# Altium schematic symbol library Analog.SchLib: 32 symbols
Pins are listed as number, name and electrical type; pins without a type are passive.

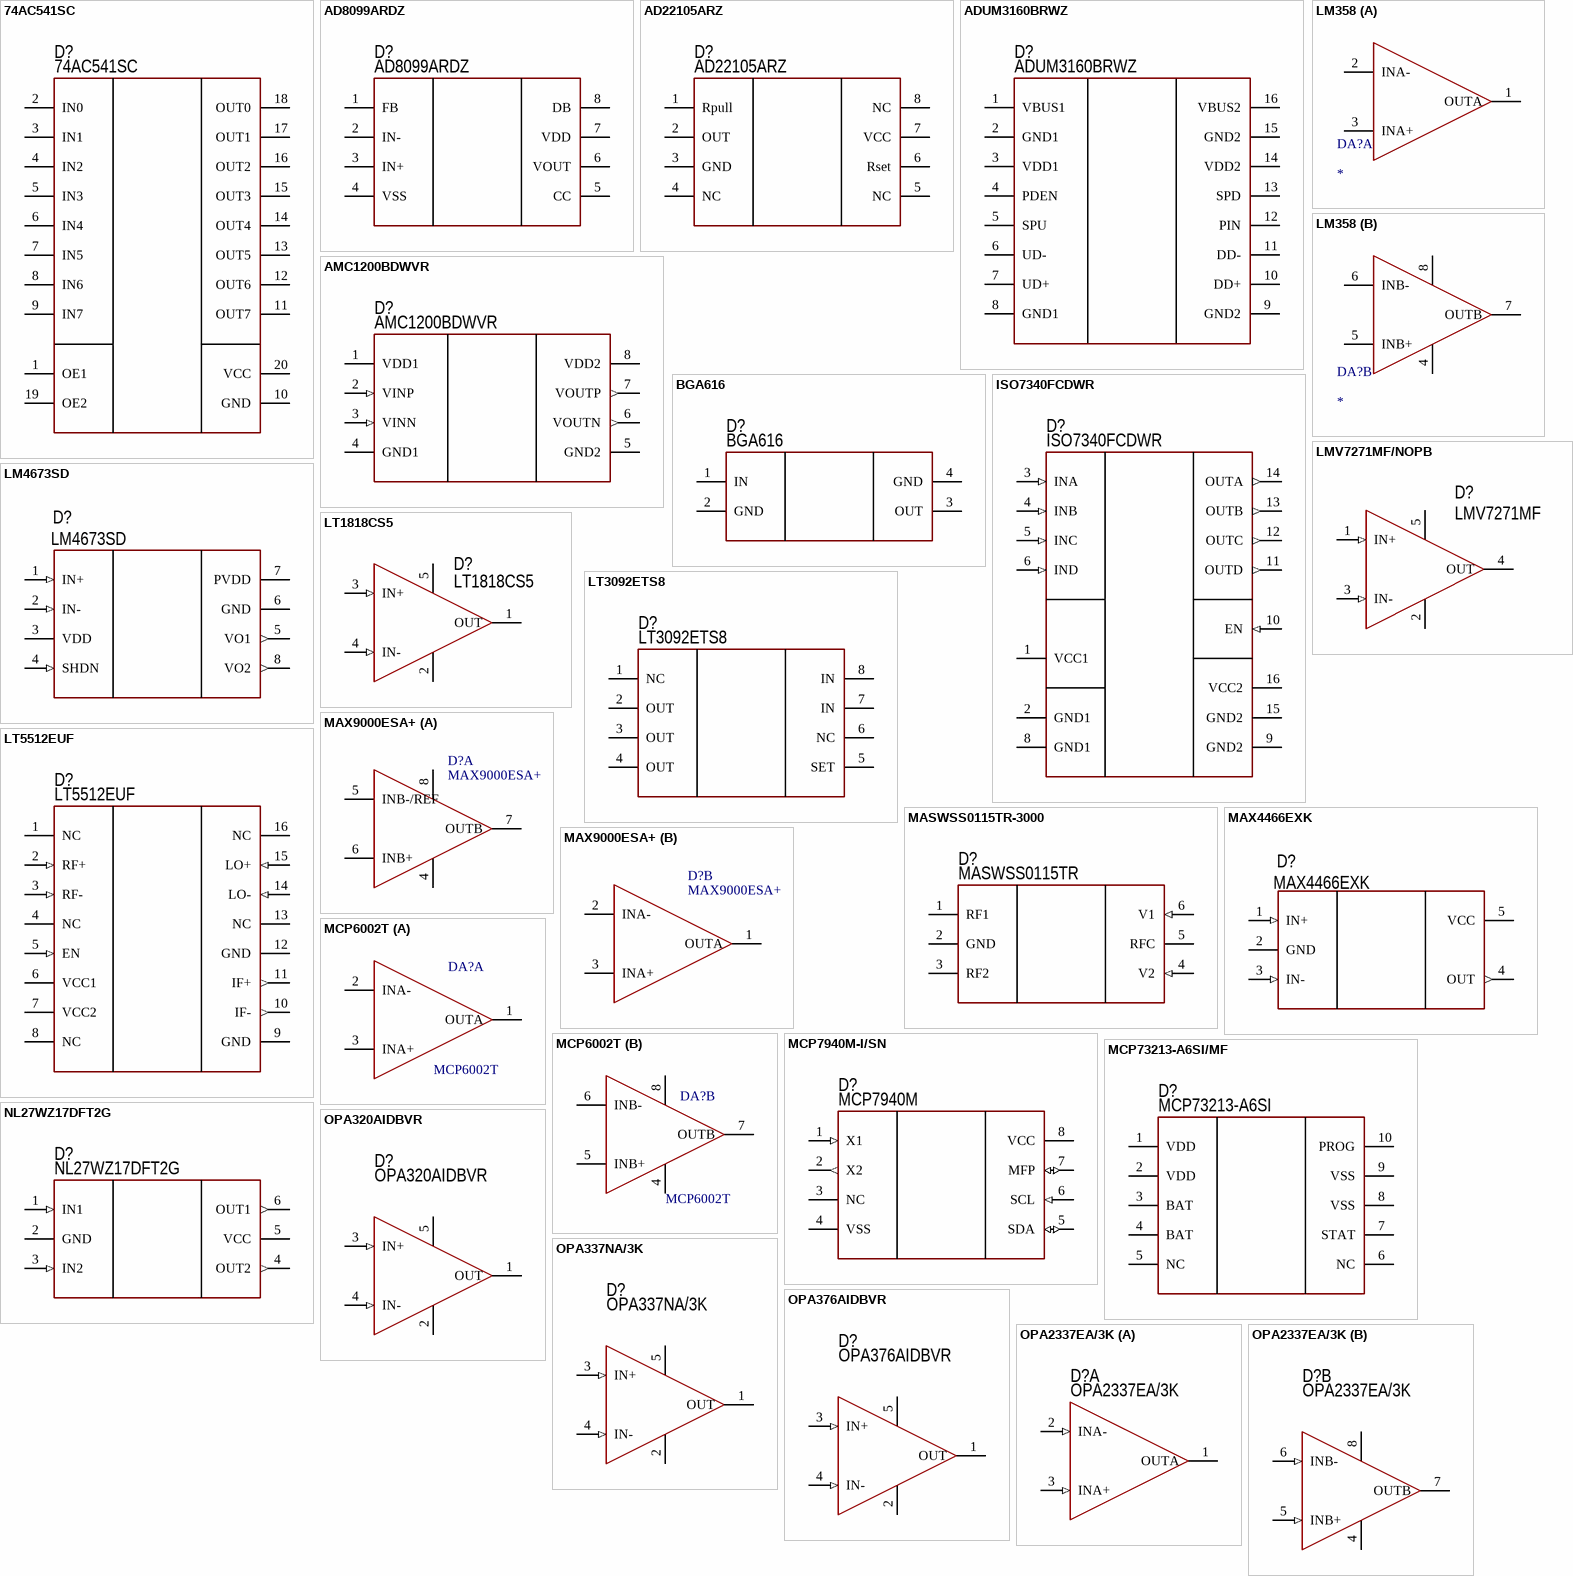
[diagram p0: symbols 74AC541SC to OPA2337EA/3K]

## 74AC541SC
designator D?
Buffer; Manufacturer: Fairchild Semiconductor; Model: 74AC541SC; HelpURL: https://www.digikey.com/product-detail/en/fairchild-on-semiconductor/74AC541SCX/74AC541SCXCT-ND/1626137; ComponentKind: 20-SOIC
footprint 20-SOIC (W)
pins: 1 OE1, 2 IN0, 3 IN1, 4 IN2, 5 IN3, 6 IN4, 7 IN5, 8 IN6, 9 IN7, 10 GND, 11 OUT7, 12 OUT6, 13 OUT5, 14 OUT4, 15 OUT3, 16 OUT2, 17 OUT1, 18 OUT0, 19 OE2, 20 VCC

## AD8099ARDZ
designator D?
Amplifer; Manufacturer: Analog Devices; Model: AD8099ARDZ; ComponentKind: 8-SOIC; HelpURL: https://www.digikey.com/product-detail/en/analog-devices-inc/AD8099ARDZ/AD8099ARDZ-ND/644115
footprint 8-SOIC
pins: 1 FB, 2 IN-, 3 IN+, 4 VSS, 5 CC, 6 VOUT, 7 VDD, 8 DB

## AD22105ARZ
designator D?
Temp sensor; Manufacturer: Analog Devices; Model: AD22105ARZ; ComponentKind: 8-SOIC; HelpURL: https://www.digikey.com/product-detail/en/analog-devices-inc/AD22105ARZ/AD22105ARZ-ND/617049
footprint 8-SOIC
pins: 1 Rpull, 2 OUT, 3 GND, 4 NC, 5 NC, 6 Rset, 7 VCC, 8 NC

## ADUM3160BRWZ
designator D?
Isolator USB; Manufacturer: Analog Devices Inc.; Model: ADUM3160BRWZ; HelpURL: https://www.digikey.com/product-detail/en/analog-devices-inc/ADUM3160BRWZ/ADUM3160BRWZ-ND/2361054; ComponentKind: 16-SOIC
footprint 16-SOIC (W)
pins: 1 VBUS1, 2 GND1, 3 VDD1, 4 PDEN, 5 SPU, 6 UD-, 7 UD+, 8 GND1, 9 GND2, 10 DD+, 11 DD-, 12 PIN, 13 SPD, 14 VDD2, 15 GND2, 16 VBUS2

## AMC1200BDWVR
designator D?
Isolator amp; Manufacturer: Texas Instruments; Model: AMC1200BDWVR; ComponentKind: 8-SOIC; HelpURL: https://ru.mouser.com/ProductDetail/Texas-Instruments/AMC1200BDWVR?qs=sGAEpiMZZMtyhvbnOfCRF3agHSSyipED66HthgVWgU8%3d
footprint 8-SOIC
pins: 1 VDD1 (power), 2 VINP (in), 3 VINN (in), 4 GND1 (power), 5 GND2 (power), 6 VOUTN (out), 7 VOUTP (out), 8 VDD2 (power)

## BGA616
designator D?
Amplifier RF; Manufacturer: Infineon Technologies; Model: BGA616H6327XTSA1; ComponentKind: SOT-343; HelpURL: https://www.digikey.com/product-detail/en/infineon-technologies/BGA616H6327XTSA1/BGA616H6327XTSA1CT-ND/2410159
footprint SOT343
pins: 1 IN, 2 GND, 3 OUT, 4 GND

## ISO7340FCDWR
designator D?
Isolator; Manufacturer: Texas Instruments; Model: ISO7340FCDWR; ComponentKind: 16-SOIC; HelpURL: https://www.digikey.com/product-detail/en/texas-instruments/ISO7340FCDWR/296-47262-1-ND/7688272
footprint 16-SOIC (W)
pins: 1 VCC1 (power), 2 GND1 (power), 3 INA (in), 4 INB (in), 5 INC (in), 6 IND (in), 8 GND1 (power), 9 GND2 (power), 10 EN (in), 11 OUTD (out), 12 OUTC (out), 13 OUTB (out), 14 OUTA (out), 15 GND2 (power), 16 VCC2 (power)

## LM358
designator DA?
footprint 8-SOIC
part A pins: 1 OUTA (power), 2 INA-, 3 INA+
part B pins: 4 V- (power), 5 INB+, 6 INB-, 7 OUTB (power), 8 V+ (power)

## LM4673SD
designator D?
Audio class D; Manufacturer: Texas Instruments; Model: LM4673SD/NOPB; ComponentKind: 8-WSON; HelpURL: https://www.digikey.com/product-detail/en/texas-instruments/LM4673SD-NOPB/LM4673SD-NOPBCT-ND/1207555
footprint 8-WSON (3x3 mm)
pins: 1 IN+ (in), 2 IN- (in), 3 VDD, 4 SHDN (in), 5 VO1 (out), 6 GND, 7 PVDD, 8 VO2 (out)

## LMV7271MF/NOPB
designator D?, comment LMV7271MF
Comparator; Manufacturer: Texas Instruments; Model: LMV7271MF/NOPB; ComponentKind: SOT-23-5; HelpURL: https://ru.mouser.com/ProductDetail/Texas-Instruments/LMV7271MF-NOPB?qs=sGAEpiMZZMuayl%2fEk2kXcbEcxwmoPguczmuSedfFzeo%3d
footprint SOT23-5 (SOT23, 5-Leads, Body 2,90x2,80mm, Pitch 0,95mm, IPC Medium Density)
pins: 1 IN+ (in), 2 V- (power), 3 IN- (in), 4 OUT (power), 5 V+ (power)

## LT1818CS5
designator D?
Amplifer; Manufacturer: Linear Technology; Model: LT1818CS5#TRMPBF; ComponentKind: SOT23-5; HelpURL: https://www.digikey.com/product-detail/en/linear-technology/LT1818CS5-TRMPBF/LT1818CS5-TRMPBFCT-ND/1754244
footprint SOT23-5 (SOT23, 5-Leads, Body 2,90x2,80mm, Pitch 0,95mm, IPC Medium Density)
pins: 1 OUT, 2 V- (power), 3 IN+ (in), 4 IN- (in), 5 V+ (power)

## LT3092ETS8
designator D?
Current Source; Manufacturer: Linear Technology; Model: LT3092ETS8#TRMPBF; HelpURL: https://www.digikey.com/product-detail/en/linear-technology/LT3092ETS8-TRMPBF/LT3092ETS8-TRMPBFCT-ND/2136076; ComponentKind: SOT23-8
footprint SOT23-8 (8-Lead Small Outline Transistor Package [SOT-23])
pins: 1 NC, 2 OUT, 3 OUT, 4 OUT, 5 SET, 6 NC, 7 IN, 8 IN

## LT5512EUF
designator D?
RF mixer; Manufacturer: Linear Technology; Model: LT5512EUF#PBF; HelpURL: https://www.digikey.com/product-detail/en/linear-technology/LT5512EUF-PBF/LT5512EUF-PBF-ND/889631; ComponentKind: 16-QFN
footprint 16-QFN (4x4) (PQFN, 16-Leads, Body 4,00x4,00mm, Pitch 0,65mm, Thermal Pad 2,15x2,15mm, IPC Medium Density)
pins: 1 NC, 2 RF+ (in), 3 RF- (in), 4 NC, 5 EN (in), 6 VCC1, 7 VCC2, 8 NC, 9 GND, 10 IF- (out), 11 IF+ (out), 12 GND, 13 NC, 14 LO- (in), 15 LO+ (in), 16 NC

## MASWSS0115TR-3000
designator D?, comment MASWSS0115TR
RF switches; Manufacturer: M/A-Com Technology Solutions; Model: MASWSS0115TR-3000; Datasheet: https://www.digikey.com/product-detail/en/m-a-com-technology-solutions/MASWSS0115TR-3000/1465-1373-1-ND/4430070; ComponentKind: SOT23-6
footprint SOT23-6 (SOT23, 6-Leads, Body 2,90x2,45mm, Pitch 0,95mm, IPC Medium Density)
pins: 1 RF1, 2 GND, 3 RF2, 4 V2 (in), 5 RFC, 6 V1 (in)

## MAX4466EXK
designator D?
Microphone amplifier; Manufacturer: Maxim Integrated; Model: MAX4466EXK+T; ComponentKind: SOT23-5; HelpURL: https://www.digikey.com/product-detail/en/maxim-integrated/MAX4466EXK-T/MAX4466EXK-CT-ND/5405773
footprint SOT23-5 (SOT23, 5-Leads, Body 2,90x2,80mm, Pitch 0,95mm, IPC Medium Density)
pins: 1 IN+ (in), 2 GND (power), 3 IN- (in), 4 OUT (out), 5 VCC (power)

## MAX9000ESA+
designator D?
MAX9000ESA+/SOIC8
footprint 8-SOIC
part A pins: 4 V- (power), 5 INB-/REF, 6 INB+, 7 OUTB (power), 8 V+ (power)
part B pins: 1 OUTA (power), 2 INA-, 3 INA+

## MCP6002T
designator DA?
footprint 8-SOIC
part A pins: 1 OUTA (power), 2 INA-, 3 INA+
part B pins: 4 V- (power), 5 INB+, 6 INB-, 7 OUTB (power), 8 V+ (power)

## MCP7940M-I/SN
designator D?, comment MCP7940M
RTC; Manufacturer: Microchip Technology; Model: MCP7940M-I/SN; HelpURL: https://www.digikey.com/products/en?keywords=MCP7940M-I%2FSN; ComponentKind: 8-SOIC
footprint 8-SOIC
pins: 1 X1 (in), 2 X2 (out), 3 NC, 4 VSS, 5 SDA (io), 6 SCL (in), 7 MFP (io), 8 VCC

## MCP73213-A6SI/MF
designator D?, comment MCP73213-A6SI
Li-ion control; Manufacturer: Microchip Technology; Model: MCP73213-A6SI/MF; HelpURL: https://www.digikey.com/products/en?keywords=MCP73213-A6SI%2FMF; ComponentKind: 10-DFN
footprint 10-DFN (QFN, 10-Leads, Body 3,00x3,00mm, Pitch 0,50mm, Thermal Pad 3,18x1,58mm, IPC Medium Density)
pins: 1 VDD, 2 VDD, 3 BAT, 4 BAT, 5 NC, 6 NC, 7 STAT, 8 VSS, 9 VSS, 10 PROG

## NL27WZ17DFT2G
designator D?
Buffer; Manufacturer: ON Semiconductor; Model: NL27WZ17DFT2G; HelpURL: https://ru.mouser.com/ProductDetail/ON-Semiconductor/NL27WZ17DFT2G?qs=%2fha2pyFaduhnK56EvHqEmuZwbZECat6tX3MJfFP5a816mv0kEqjZ4g%3d%3d; ComponentKind: SOT23-6
footprint SOT23-6 (SOT23, 6-Leads, Body 2,90x2,45mm, Pitch 0,95mm, IPC Medium Density)
pins: 1 IN1 (in), 2 GND (power), 3 IN2 (in), 4 OUT2 (out), 5 VCC (power), 6 OUT1 (out)

## OPA320AIDBVR
designator D?
Amplifer; Manufacturer: Texas Instruments; Model: OPA320AIDBVR; ComponentKind: SOT-23-5; HelpURL: https://ru.mouser.com/ProductDetail/Texas-Instruments/OPA320AIDBVR?qs=sGAEpiMZZMvtNjJQt4UgLVEjWMcaZsKjHkkvc4RmsSY%3d
footprint SOT23-5 (SOT23, 5-Leads, Body 2,90x2,80mm, Pitch 0,95mm, IPC Medium Density)
pins: 1 OUT (power), 2 V- (power), 3 IN+ (in), 4 IN- (in), 5 V+ (power)

## OPA337NA/3K
designator D?
Amplifer; Manufacturer: Texas Instruments; Model: OPA337NA/3K; ComponentKind: SOT-23-5; HelpURL: https://www.mouser.co.uk/ProductDetail/Texas-Instruments/OPA337NA-3K?qs=sGAEpiMZZMtCHixnSjNA6Mrdwin7F8A2FULjxDgvVMY%3d
footprint SOT23-5 (SOT23, 5-Leads, Body 2,90x2,80mm, Pitch 0,95mm, IPC Medium Density)
pins: 1 OUT (power), 2 V- (power), 3 IN+ (in), 4 IN- (in), 5 V+ (power)

## OPA376AIDBVR
designator D?
Amplifer; Manufacturer: Texas Instruments; Model: OPA376AIDBVR; ComponentKind: SOT-23-5; HelpURL: https://ru.mouser.com/ProductDetail/Texas-Instruments/OPA376AIDBVR?qs=sGAEpiMZZMv2US1BCAiBy%252bfHNJS8v4EK
footprint SOT23-5 (SOT23, 5-Leads, Body 2,90x2,80mm, Pitch 0,95mm, IPC Medium Density)
pins: 1 OUT (power), 2 V- (power), 3 IN+ (in), 4 IN- (in), 5 V+ (power)

## OPA2337EA/3K
designator D?
Amplifer; Manufacturer: Texas Instruments; Model: OPA2337EA/3K; ComponentKind: SOT-23-8; HelpURL: https://www.mouser.co.uk/ProductDetail/Texas-Instruments/OPA2337EA-3K?qs=sGAEpiMZZMtCHixnSjNA6Mrdwin7F8A2bh9oK8HozhM%3d
footprint SOT23-8 (8-Lead Small Outline Transistor Package [SOT-23])
part A pins: 1 OUTA (power), 2 INA- (in), 3 INA+ (in)
part B pins: 4 V- (power), 5 INB+ (in), 6 INB- (in), 7 OUTB (power), 8 V+ (power)

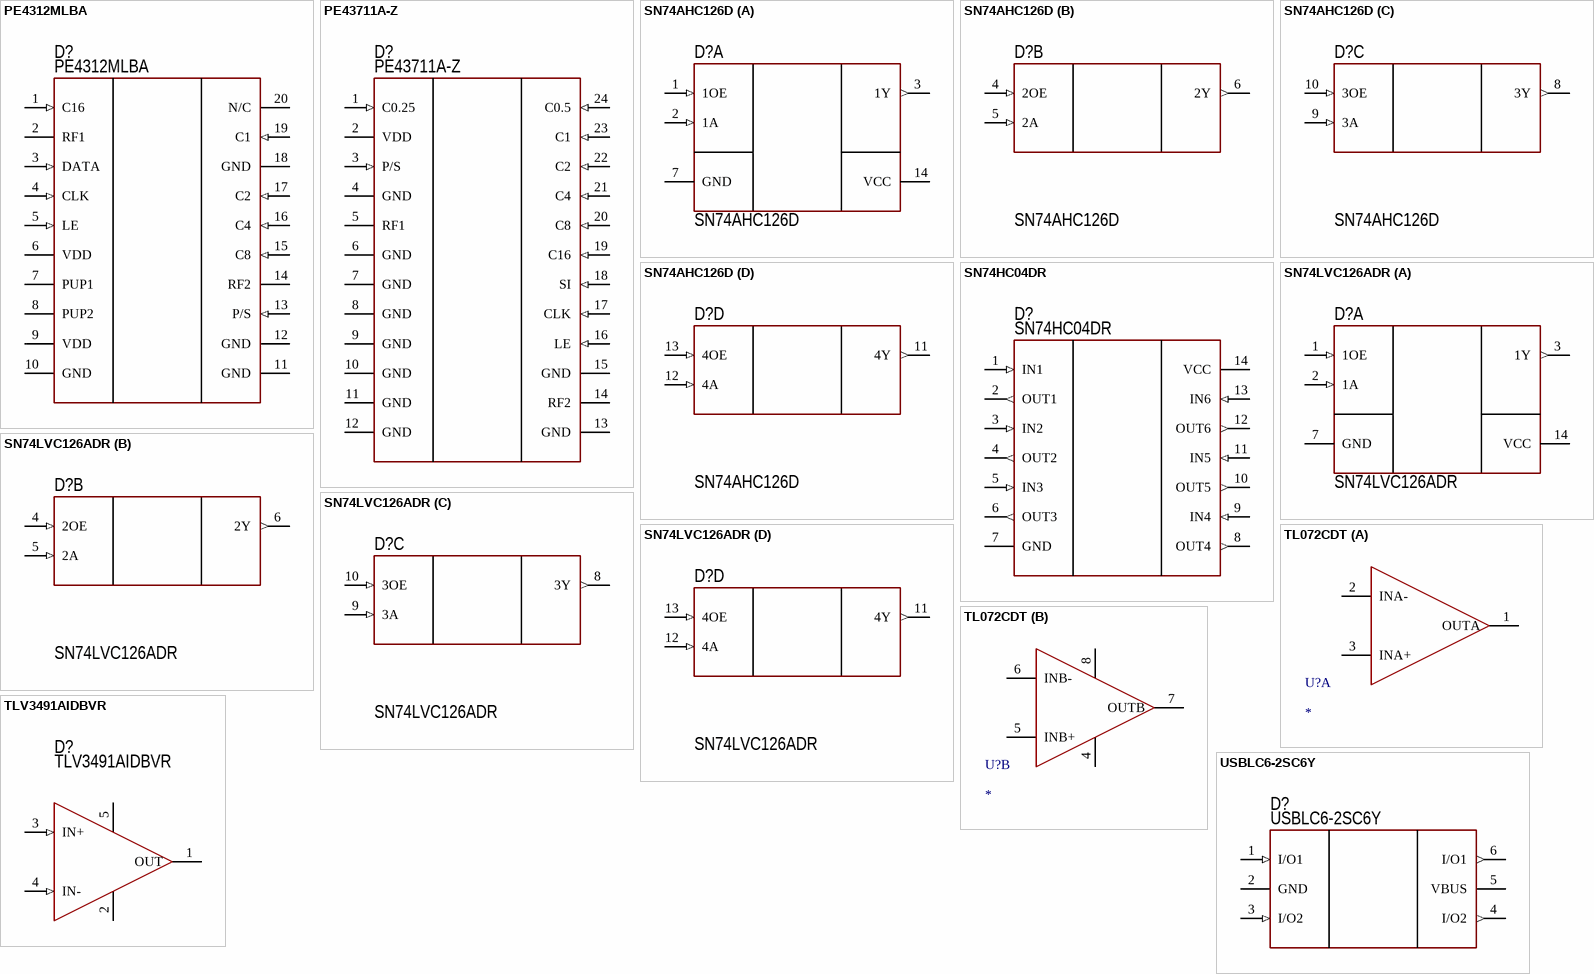
[diagram p1: symbols PE4312MLBA to USBLC6-2SC6Y]

## PE4312MLBA
designator D?
Attenuator; Manufacturer: Peregrine-Semiconductor; Model: PE4312MLBA-Z; ComponentKind: 20-QFN; HelpURL: https://www.digikey.com/product-detail/en/peregrine-semiconductor/PE4312MLBA-Z/1046-1098-1-ND/4780774
footprint 20-QFN (4x4)
pins: 1 C16 (in), 2 RF1, 3 DATA (in), 4 CLK (in), 5 LE (in), 6 VDD, 7 PUP1, 8 PUP2, 9 VDD, 10 GND, 11 GND, 12 GND, 13 P/S (in), 14 RF2, 15 C8 (in), 16 C4 (in), 17 C2 (in), 18 GND, 19 C1 (in), 20 N/C

## PE43711A-Z
designator D?
Attenuator; Manufacturer: Peregrine Semiconductor; ComponentKind: 24-QFN; HelpURL: https://www.digikey.com/product-detail/en/peregrine-semiconductor/PE43711A-Z/1046-1138-1-ND/5269620; Model: PE43711A-Z
footprint 24-QFN (4x4)
pins: 1 C0.25 (in), 2 VDD, 3 P/S (in), 4 GND, 5 RF1, 6 GND, 7 GND, 8 GND, 9 GND, 10 GND, 11 GND, 12 GND, 13 GND, 14 RF2, 15 GND, 16 LE (in), 17 CLK (in), 18 SI (in), 19 C16 (in), 20 C8 (in), 21 C4 (in), 22 C2 (in), 23 C1 (in), 24 C0.5 (in)

## SN74AHC126D
designator D?
Buffer 5V; Manufacturer: Texas Instruments; Model: SN74AHC126D; HelpURL: https://ru.mouser.com/ProductDetail/Texas-Instruments/SN74AHC126D?qs=sGAEpiMZZMuiiWkaIwCK2UHhUsuHvyUOCyf6bgRvWuA%3d; ComponentKind: 14-SOIC
footprint 14-SOIC
part A pins: 1 1OE (in), 2 1A (in), 3 1Y (out), 7 GND (power), 14 VCC (power)
part B pins: 4 2OE (in), 5 2A (in), 6 2Y (out)
part C pins: 8 3Y (out), 9 3A (in), 10 3OE (in)
part D pins: 11 4Y (out), 12 4A (in), 13 4OE (in)

## SN74HC04DR
designator D?
Inverter; Manufacturer: Texas Instruments; Model: SN74HC04DR; HelpURL: http://www.digikey.com/product-detail/en/texas-instruments/SN74HC04DR/296-1189-1-ND/404901; ComponentKind: 14-SOIC
footprint 14-SOIC
pins: 1 IN1 (in), 2 OUT1 (out), 3 IN2 (in), 4 OUT2 (out), 5 IN3 (in), 6 OUT3 (out), 7 GND, 8 OUT4 (out), 9 IN4 (in), 10 OUT5 (out), 11 IN5 (in), 12 OUT6 (out), 13 IN6 (in), 14 VCC

## SN74LVC126ADR
designator D?
Buffer 3.3V; Manufacturer: Texas Instruments; Model: SN74LVC126ADR; HelpURL: https://ru.mouser.com/ProductDetail/Texas-Instruments/SN74LVC126ADR?qs=sGAEpiMZZMuiiWkaIwCK2bK%2fUlbxrrJCrRPtz5SHaeY%3d; ComponentKind: 14-SOIC
footprint 14-SOIC
part A pins: 1 1OE (in), 2 1A (in), 3 1Y (out), 7 GND (power), 14 VCC (power)
part B pins: 4 2OE (in), 5 2A (in), 6 2Y (out)
part C pins: 8 3Y (out), 9 3A (in), 10 3OE (in)
part D pins: 11 4Y (out), 12 4A (in), 13 4OE (in)

## TL072CDT
designator U?
footprint 8-SOIC
part A pins: 1 OUTA (power), 2 INA-, 3 INA+
part B pins: 4 V- (power), 5 INB+, 6 INB-, 7 OUTB (power), 8 V+ (power)

## TLV3491AIDBVR
designator D?
Comparator; Manufacturer: Texas Instruments; Model: TLV3491AIDBVR; ComponentKind: SOT-23-5; HelpURL: https://ru.mouser.com/ProductDetail/Texas-Instruments/TLV3491AIDBVR?qs=sGAEpiMZZMuayl%2fEk2kXcUD3k0KZjJUukKOiHoYYFBw%3d
footprint SOT23-5 (SOT23, 5-Leads, Body 2,90x2,80mm, Pitch 0,95mm, IPC Medium Density)
pins: 1 OUT (power), 2 V- (power), 3 IN+ (in), 4 IN- (in), 5 V+ (power)

## USBLC6-2SC6Y
designator D?
USB protection; Manufacturer: STMicroelectronics; Model: USBLC6-2SC6Y; ComponentKind: SOT23-6; HelpURL: https://www.digikey.com/product-detail/en/stmicroelectronics/USBLC6-2SC6Y/497-11882-1-ND/2756523
footprint SOT23-6 (SOT23, 6-Leads, Body 2,90x2,45mm, Pitch 0,95mm, IPC Medium Density)
pins: 1 I/O1 (in), 2 GND, 3 I/O2 (in), 4 I/O2 (out), 5 VBUS, 6 I/O1 (out)